# Altium footprint library Userlib.PcbLib: 17 footprints (part 2 of 2)
Each footprint in its own frame and in the unit in brackets; x right, y up, seen from the top. Pads: shape width x height; smd on the part's side, far side on the other; paste and mask are expansions set on the pad; w line width, h text height; cw(c..) or ccw(c..) is an arc to the next point about the centre after c.
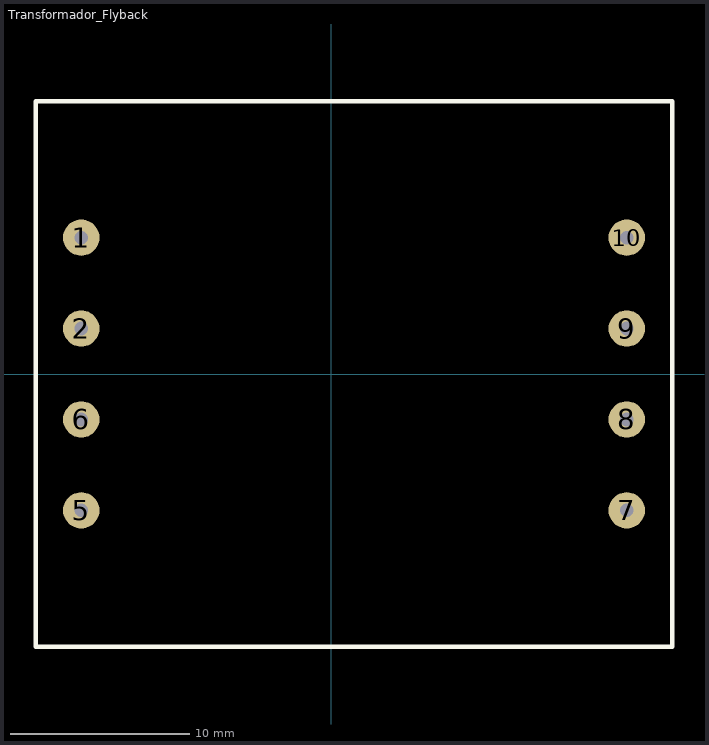
[diagram p1: the footprint, top view; thin cyan lines are the x and y axes]

## Transformador_Flyback [mil]
pads (8):
  round 80 hole 30 square: 1(-550,300) 2(-550,100) 5(-550,-300) 6(-550,-100) 7(650,-300) 8(650,-100) 9(650,100) 10(650,300)
Top Overlay:
  lines w10: -650,-600 750,-600 750,600 -650,600 -650,-600